# Altium integrated library transformer-pulse.IntLib: 1 symbol
Pins are listed as number, name and electrical type; pins without a type are passive.

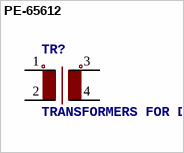
[diagram p0: symbol PE-65612]

## PE-65612
designator TR?, comment TRANSFORMERS FOR DIGITAL AUDIO DATA TRANSMISSION   Source:  Data sheet  www.pulseeng.com
footprint PE-65612
pins: 1 P1, 2 P2, 3 S1, 4 S2